# EAGLE library part FT231X (library bschulz)
FT231x - USB to UART Bridge Characteristics: Vin: 3.3V ~ 5V Operating Temperature: -40°C to 85°C Digikey: FT231x <https://www.digikey.com/product-detail/en/ftdi-future-technology-devices-international-ltd/FT231XQ-R/768-1128-1-ND/3029153>
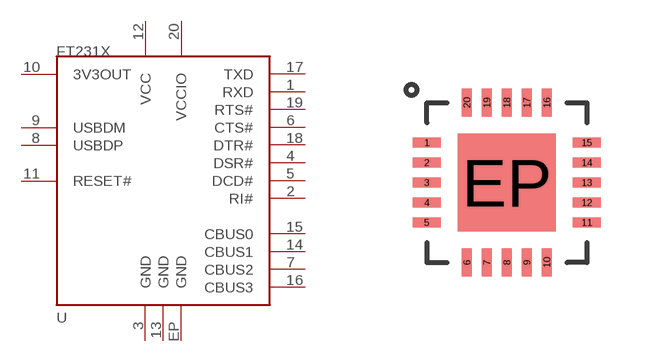
[diagram p25: symbol with the pads of QFN20; footprint QFN20]

Designator prefix U

## FT231X-Q (DIGIKEY: 768-1128-1-ND; MF: FTDI; MPN: FT231XQ-R)  [QFN20]
1  RXD
2  RI#
3  GND
4  DSR#
5  DCD#
6  CTS#
7  CBUS2
8  USBDP
9  USBDM
10  3V3OUT
11  RESET#
12  VCC
13  GND
14  CBUS1
15  CBUS0
16  CBUS3
17  TXD
18  DTR#
19  RTS#
20  VCCIO
EP  GND

## Footprint QFN20 (pad centres in mm)
QFN, 20 pos, 0.5mm pitch, 4x4mm body
smd 0.7 x 0.25: 1 -2.032,0.968; 2 -2.032,0.468; 3 -2.032,-0.032; 4 -2.032,-0.532; 5 -2.032,-1.032; 11 1.968,-1.032; 12 1.968,-0.532; 13 1.968,-0.032; 14 1.968,0.468; 15 1.968,0.968
smd 0.25 x 0.7: 6 -1.032,-2.032; 7 -0.532,-2.032; 8 -0.032,-2.032; 9 0.468,-2.032; 10 0.968,-2.032; 16 0.968,1.968; 17 0.468,1.968; 18 -0.032,1.968; 19 -0.532,1.968; 20 -1.032,1.968
smd 2.45 x 2.45: EP -0.032,-0.032